# EAGLE library part UCC23513QDWYRQ1 (library UCC23513QDWYRQ1)
Gate Drivers Automotive 4-A source, 5-A sink, 5.7-kVRMS opto-compatible single-channel isolated gate driver 6-SOIC -40 to 125 Source: Datasheet <https://www.ti.com/lit/ds/symlink/ucc23513-q1.pdf?ts=1619871207992&ref_url=https%3A%2F%2Feu.mouser.com%2F>
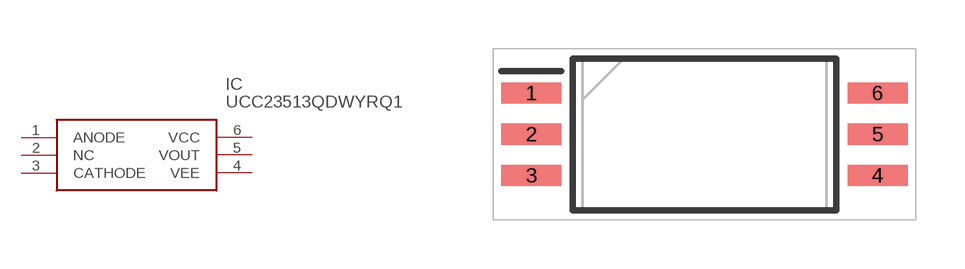
[diagram p0: symbol with the pads of SOIC127P1150X355-6N; footprint SOIC127P1150X355-6N]

Designator prefix IC

## UCC23513QDWYRQ1 (Arrow_Part_Number: UCC23513QDWYRQ1; Arrow_Price-Stock: https://www.arrow.com/en/products/ucc23513qdwyrq1/texas-instruments?region=nac; Description: Gate Drivers Automotive 4-A source, 5-A sink, 5.7-kVRMS opto-compatible single-channel isolated gate driver 6-SOIC -40 to 125; Height: 3.55mm; Manufacturer_Name: Texas Instruments; Manufacturer_Part_Number: UCC23513QDWYRQ1; Mouser_Part_Number: 595-UCC23513QDWYRQ1; Mouser_Price-Stock: https://www.mouser.co.uk/ProductDetail/Texas-Instruments/UCC23513QDWYRQ1?qs=DRkmTr78QAQFOTnNqSLksg%3D%3D)  [SOIC127P1150X355-6N]
1  ANODE
2  NC  nc
3  CATHODE
4  VEE
5  VOUT
6  VCC

## Footprint SOIC127P1150X355-6N (pad centres in mm)
soic
smd 1.85 x 0.65: 1 -5.325,1.27; 2 -5.325,0; 3 -5.325,-1.27; 4 5.325,-1.27; 5 5.325,0; 6 5.325,1.27